# Altium footprint library Motor_Driver.PcbLib: 6 footprints
Each footprint in its own frame and in the unit in brackets; x right, y up, seen from the top. Pads: shape width x height; smd on the part's side, far side on the other; paste and mask are expansions set on the pad; w line width, h text height; cw(c..) or ccw(c..) is an arc to the next point about the centre after c.
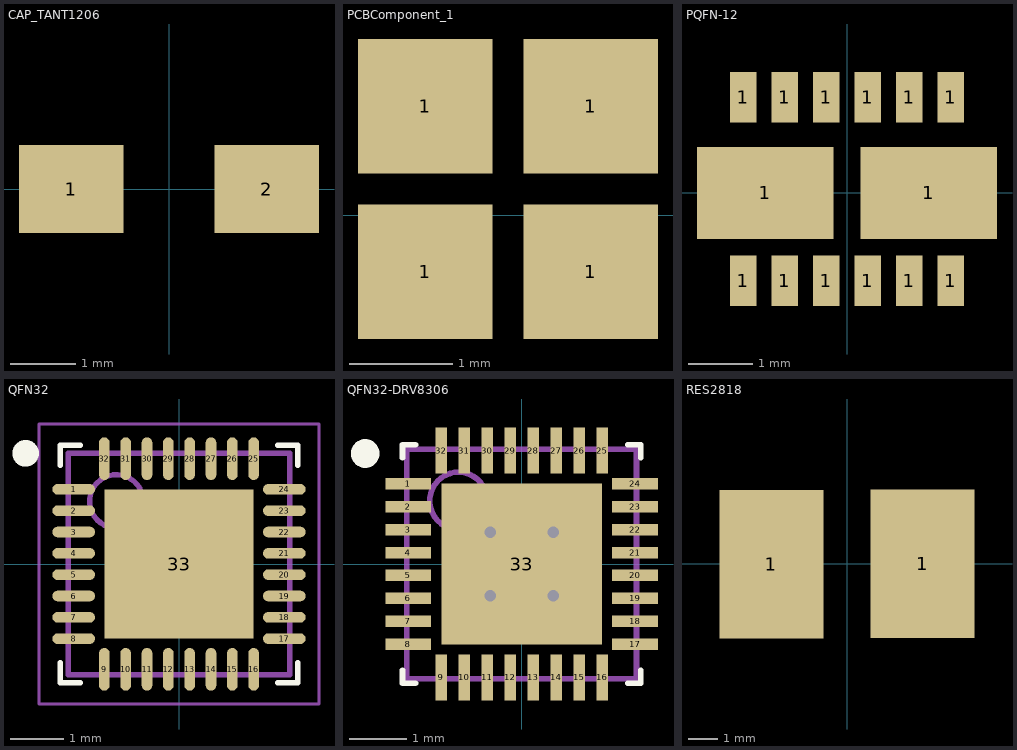
[diagram p0: the footprints below, top view; thin cyan lines are the x and y axes]

## CAP_TANT1206 [mm] "TANTALUM CAPACITOR-SMD 1206 (IN)"
pads (2):
  rect 1.6x1.35 smd mask+0.02: 1(-1.5,0) 2(1.5,0)
3D body "CAP_TAN_3216_1206.step": height 1.78, standoff -0.02, extent -1.7,-0.9 1.7,0.9

## PCBComponent_1 [mm]
pads (4):
  rect 1.3x1.3 smd mask+0.102: 1(-10.325,-0.546) 1(-10.325,1.054) 1(-8.725,-0.546) 1(-8.725,1.054)

## PQFN-12 [mm] "FDMD8240L PQFN-12"
pads (14):
  rect 0.42x0.79 smd mask+0.05: 1(-1.625,-1.375) 1(-1.625,1.5) 1(-0.975,-1.375) 1(-0.975,1.5) 1(-0.325,-1.375) 1(-0.325,1.5) 1(0.325,-1.375) 1(0.325,1.5) 1(0.975,-1.375) 1(0.975,1.5) 1(1.625,-1.375) 1(1.625,1.5)
  rect 2.135x1.44 smd mask+0.05: 1(-1.282,0) 1(1.282,0)
3D body "FDMD8240L.STEP": height 0.82, standoff -0.02, extent -2.5,-1.65 2.5,1.65

## QFN32 [mm] "QFN, 32-Leads, Body 4,00x4,00mm, Pitch 0,40mm, Thermal Pad 2,80x2,80mm, IPC Medium Density"
height 0.8
pads (33):
  oval 0.8x0.2 smd mask+0.05: 1(-1.975,1.4) 2(-1.975,1) 3(-1.975,0.6) 4(-1.975,0.2) 5(-1.975,-0.2) 6(-1.975,-0.6) 7(-1.975,-1) 8(-1.975,-1.4) 17(1.975,-1.4) 18(1.975,-1) 19(1.975,-0.6) 20(1.975,-0.2) 21(1.975,0.2) 22(1.975,0.6) 23(1.975,1) 24(1.975,1.4)
  oval 0.2x0.8 smd mask+0.05: 9(-1.4,-1.975) 10(-1,-1.975) 11(-0.6,-1.975) 12(-0.2,-1.975) 13(0.2,-1.975) 14(0.6,-1.975) 15(1,-1.975) 16(1.4,-1.975) 25(1.4,1.975) 26(1,1.975) 27(0.6,1.975) 28(0.2,1.975) 29(-0.2,1.975) 30(-0.6,1.975) 31(-1,1.975) 32(-1.4,1.975)
  rect 2.8x2.8 smd: 33(0,0)
via 3.429,-1.651 diameter 0.3 hole 0.2
via 3.175,1.524 diameter 0.3 hole 0.2
via 3.81,1.016 diameter 0.3 hole 0.2
via 3.175,0.889 diameter 0.3 hole 0.2
via 4.953,-0.5 diameter 0.3 hole 0.2
via 4.191,-0.889 diameter 0.3 hole 0.2
via 4.191,0 diameter 0.3 hole 0.2
via 3.302,-0.889 diameter 0.3 hole 0.2
via 3.302,0 diameter 0.3 hole 0.2
Top Overlay:
  circle w0.25: c-2.875,2.075 r0.125
  lines w0.1: -2.225,-1.85 -2.225,-2.225 -1.85,-2.225 ; -2.225,1.85 -2.225,2.225 -1.85,2.225 ; 1.85,-2.225 2.225,-2.225 2.225,-1.85 ; 1.85,2.225 2.225,2.225 2.225,1.85
Mechanical 13:
  circle w0.1: c-1.175,1.175 r0.5
  lines w0.1: -2.075,-2.075 2.075,-2.075 2.075,2.075 -2.075,2.075 -2.075,-2.075
Mechanical 15:
  lines w0.05: -2.625,-2.625 2.625,-2.625 2.625,2.625 -2.625,2.625 -2.625,-2.625
  lines w0.1: -0.5,0 0.5,0 ; 0,-0.5 0,0.5
3D body: height 0.8, standoff 0.01, extent -2.075,-2.075 2.075,2.075

## QFN32-DRV8306 [mm] "QFN, 32-Leads, Body 4,00x4,00mm, Pitch 0,40mm, Thermal Pad 2,80x2,80mm, IPC Medium Density"
height 0.9
pads (33):
  rect 0.8x0.2 smd mask+0.05: 1(-1.975,1.4) 2(-1.975,1) 3(-1.975,0.6) 4(-1.975,0.2) 5(-1.975,-0.2) 6(-1.975,-0.6) 7(-1.975,-1) 8(-1.975,-1.4) 17(1.975,-1.4) 18(1.975,-1) 19(1.975,-0.6) 20(1.975,-0.2) 21(1.975,0.2) 22(1.975,0.6) 23(1.975,1) 24(1.975,1.4)
  rect 0.2x0.8 smd mask+0.05: 9(-1.4,-1.975) 10(-1,-1.975) 11(-0.6,-1.975) 12(-0.2,-1.975) 13(0.2,-1.975) 14(0.6,-1.975) 15(1,-1.975) 16(1.4,-1.975) 25(1.4,1.975) 26(1,1.975) 27(0.6,1.975) 28(0.2,1.975) 29(-0.2,1.975) 30(-0.6,1.975) 31(-1,1.975) 32(-1.4,1.975)
  rect 2.8x2.8 smd paste-3 mask+0: 33(0,0)
via -0.55,0.55 diameter 0.5 hole 0.2
via 0.55,0.55 diameter 0.5 hole 0.2
via -0.55,-0.55 diameter 0.5 hole 0.2
via 0.55,-0.55 diameter 0.5 hole 0.2
Top Overlay:
  circle w0.25: c-2.725,1.925 r0.125
  lines w0.1: -2.075,-1.85 -2.075,-2.075 -1.85,-2.075 ; -2.075,1.85 -2.075,2.075 -1.85,2.075 ; 1.85,-2.075 2.075,-2.075 2.075,-1.85 ; 1.85,2.075 2.075,2.075 2.075,1.85
Top Paste:
  region: 1.27,-1.27 1.27,-0.127 0.127,-0.127 0.127,-1.27
  region: -0.127,-1.27 -0.127,-0.127 -1.27,-0.127 -1.27,-1.27
  region: 0.127,1.27 0.127,0.127 1.27,0.127 1.27,1.27
  region: -1.27,1.27 -1.27,0.127 -0.127,0.127 -0.127,1.27
Mechanical 13:
  circle w0.1: c-1.1,1.1 r0.5
  lines w0.1: -2,-2 -2,2 2,2 2,-2 -2,-2
3D body "QFN32-DRV8306.step": height 0.9, standoff 0, extent -2.05,-2.05 2.05,2.05

## RES2818 [mm] "RESISTOR-SMD 2818 (IN)"
pads (2):
  rect 3.5x5 smd mask+0.1: 1(-2.54,-0.014) 1(2.54,0)
3D body "WSHP2818.stp": height 1.47, standoff -0.03, extent -3.55,-2.314 3.55,2.286
3D body: height 0.25, standoff 0, extent 0.381,0.381 0.381,0.381